# EAGLE library part 146134-16 (library con-tyco-mod-II)
HEADER
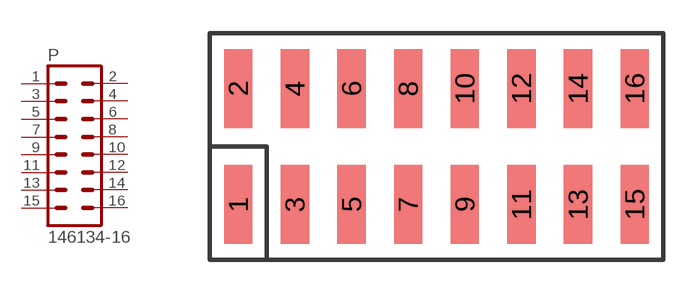
[diagram p5: symbol with the pads of 146134-16; footprint 146134-16]

Designator prefix P

## 146134-16  [146134-16]
1  1  pas
2  2  pas
3  3  pas
4  4  pas
5  5  pas
6  6  pas
7  7  pas
8  8  pas
9  9  pas
10  10  pas
11  11  pas
12  12  pas
13  13  pas
14  14  pas
15  15  pas
16  16  pas

## Footprint 146134-16 (pad centres in mm)
HEADER
smd 1.27 x 3.556: 1 -8.89,-2.603; 2 -8.89,2.603; 3 -6.35,-2.603; 4 -6.35,2.603; 5 -3.81,-2.603; 6 -3.81,2.603; 7 -1.27,-2.603; 8 -1.27,2.603; 9 1.27,-2.603; 10 1.27,2.603; 11 3.81,-2.603; 12 3.81,2.603; 13 6.35,-2.603; 14 6.35,2.603; 15 8.89,-2.603; 16 8.89,2.603